# Altium footprint library PcbLib2.PcbLib: 19 footprints (part 2 of 2)
Each footprint in its own frame and in the unit in brackets; x right, y up, seen from the top. Pads: shape width x height; smd on the part's side, far side on the other; paste and mask are expansions set on the pad; w line width, h text height; cw(c..) or ccw(c..) is an arc to the next point about the centre after c.
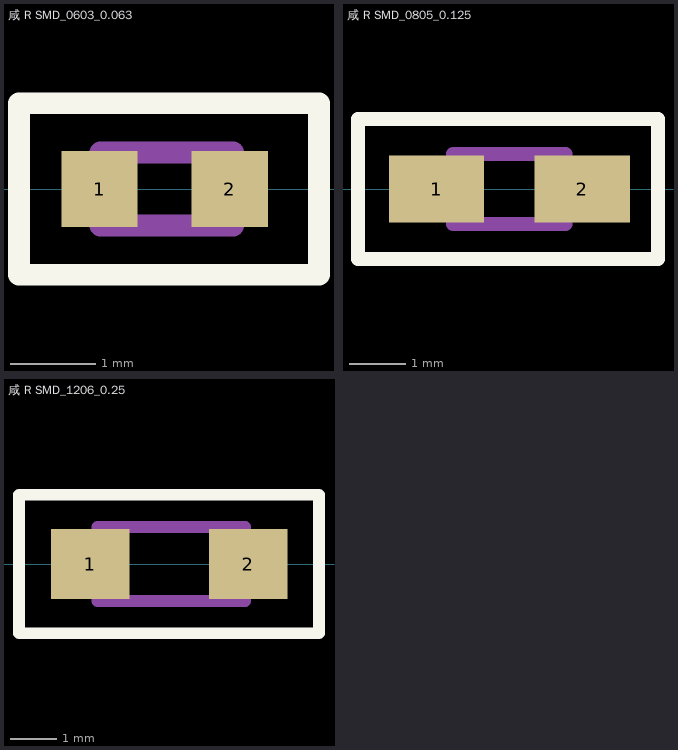
[diagram p1: the footprints below, top view; thin cyan lines are the x and y axes]

## 咸 R SMD_0603_0.063 [mm]
pads (2):
  rect 0.89x0.89 smd: 1(-4.56,0) 2(-3.04,0)
Top Overlay:
  lines w0.254: -5.5,-1 -5.5,1 -2,1 -2,-1 -5.5,-1
Mechanical 1:
  lines w0.254: -4.55,-0.425 -3,-0.425 -3,0.425 -4.55,0.425 -4.55,-0.425

## 咸 R SMD_0805_0.125 [mm]
pads (2):
  rect 1.7x1.2 smd: 1(-5.2,0) 2(-2.6,0)
Top Overlay:
  lines w0.254: -6.6,-1.25 -6.6,1.25 -1.25,1.25 -1.25,-1.25 -6.6,-1.25
Mechanical 1:
  lines w0.254: -4.9,-0.625 -4.9,0.625 -2.9,0.625 -2.9,-0.625 -4.9,-0.625

## 咸 R SMD_1206_0.25 [mm]
pads (2):
  rect 1.7x1.52 smd: 1(-6.86,0) 2(-3.43,0)
Top Overlay:
  lines w0.254: -8.4,-1.5 -1.9,-1.5 -1.9,1.5 -8.4,1.5 -8.4,-1.5
Mechanical 1:
  lines w0.254: -6.7,-0.8 -3.5,-0.8 -3.5,0.8 -6.7,0.8 -6.7,-0.8